# Altium footprint library 328p.PcbLib: 1 footprints
Each footprint in its own frame and in the unit in brackets; x right, y up, seen from the top. Pads: shape width x height; smd on the part's side, far side on the other; paste and mask are expansions set on the pad; w line width, h text height; cw(c..) or ccw(c..) is an arc to the next point about the centre after c.
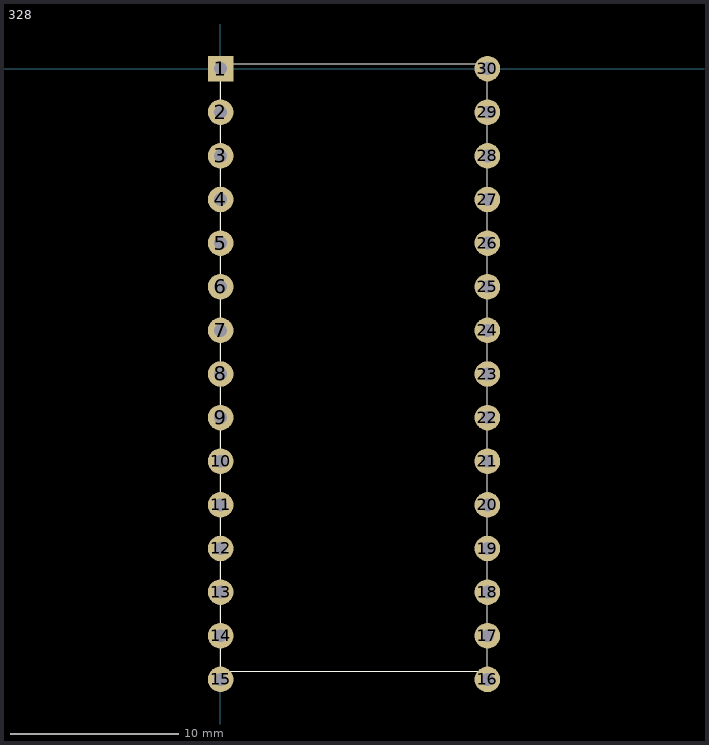
[diagram p0: the footprint, top view; thin cyan lines are the x and y axes]

## 328 [mil]
pads (30):
  rect 60x60 hole 30: 1(1.26,0.28)
  round 60 hole 30: 2(1.26,-102.09) 3(1.26,-204.45) 4(1.26,-306.81) 5(1.26,-409.17) 6(1.26,-511.54) 7(1.26,-613.9) 8(1.26,-716.26) 9(1.26,-818.62) 10(1.26,-920.98) 11(1.26,-1023.35) 12(1.26,-1125.71) 13(1.26,-1228.07) 14(1.26,-1330.43) 15(1.26,-1432.8) 16(627.32,-1432.83) 17(627.32,-1330.47) 18(627.32,-1228.11) 19(627.32,-1125.75) 20(627.32,-1023.39) 21(627.32,-921.02) 22(627.32,-818.66) 23(627.32,-716.3) 24(627.32,-613.94) 25(627.32,-511.57) 26(627.32,-409.21) 27(627.32,-306.85) 28(627.32,-204.49) 29(627.32,-102.13) 30(627.32,0.24)
Top Overlay:
  lines w0.39: 627.36,-1413.19 627.36,12.01 ; 1.3,-1413.15 1.3,12.05 627.28,12.05 627.28,-1413.15 1.3,-1413.15
  lines w3.94: 627.28,0.24 627.28,12.05
Drill Drawing:
  lines w3.94: 627.36,0.2 627.36,12.01